# Altium schematic symbol library tsl_Schlib.SchLib: 381 symbols (part 1 of 3)
Pins are listed as number, name and electrical type; pins without a type are passive.

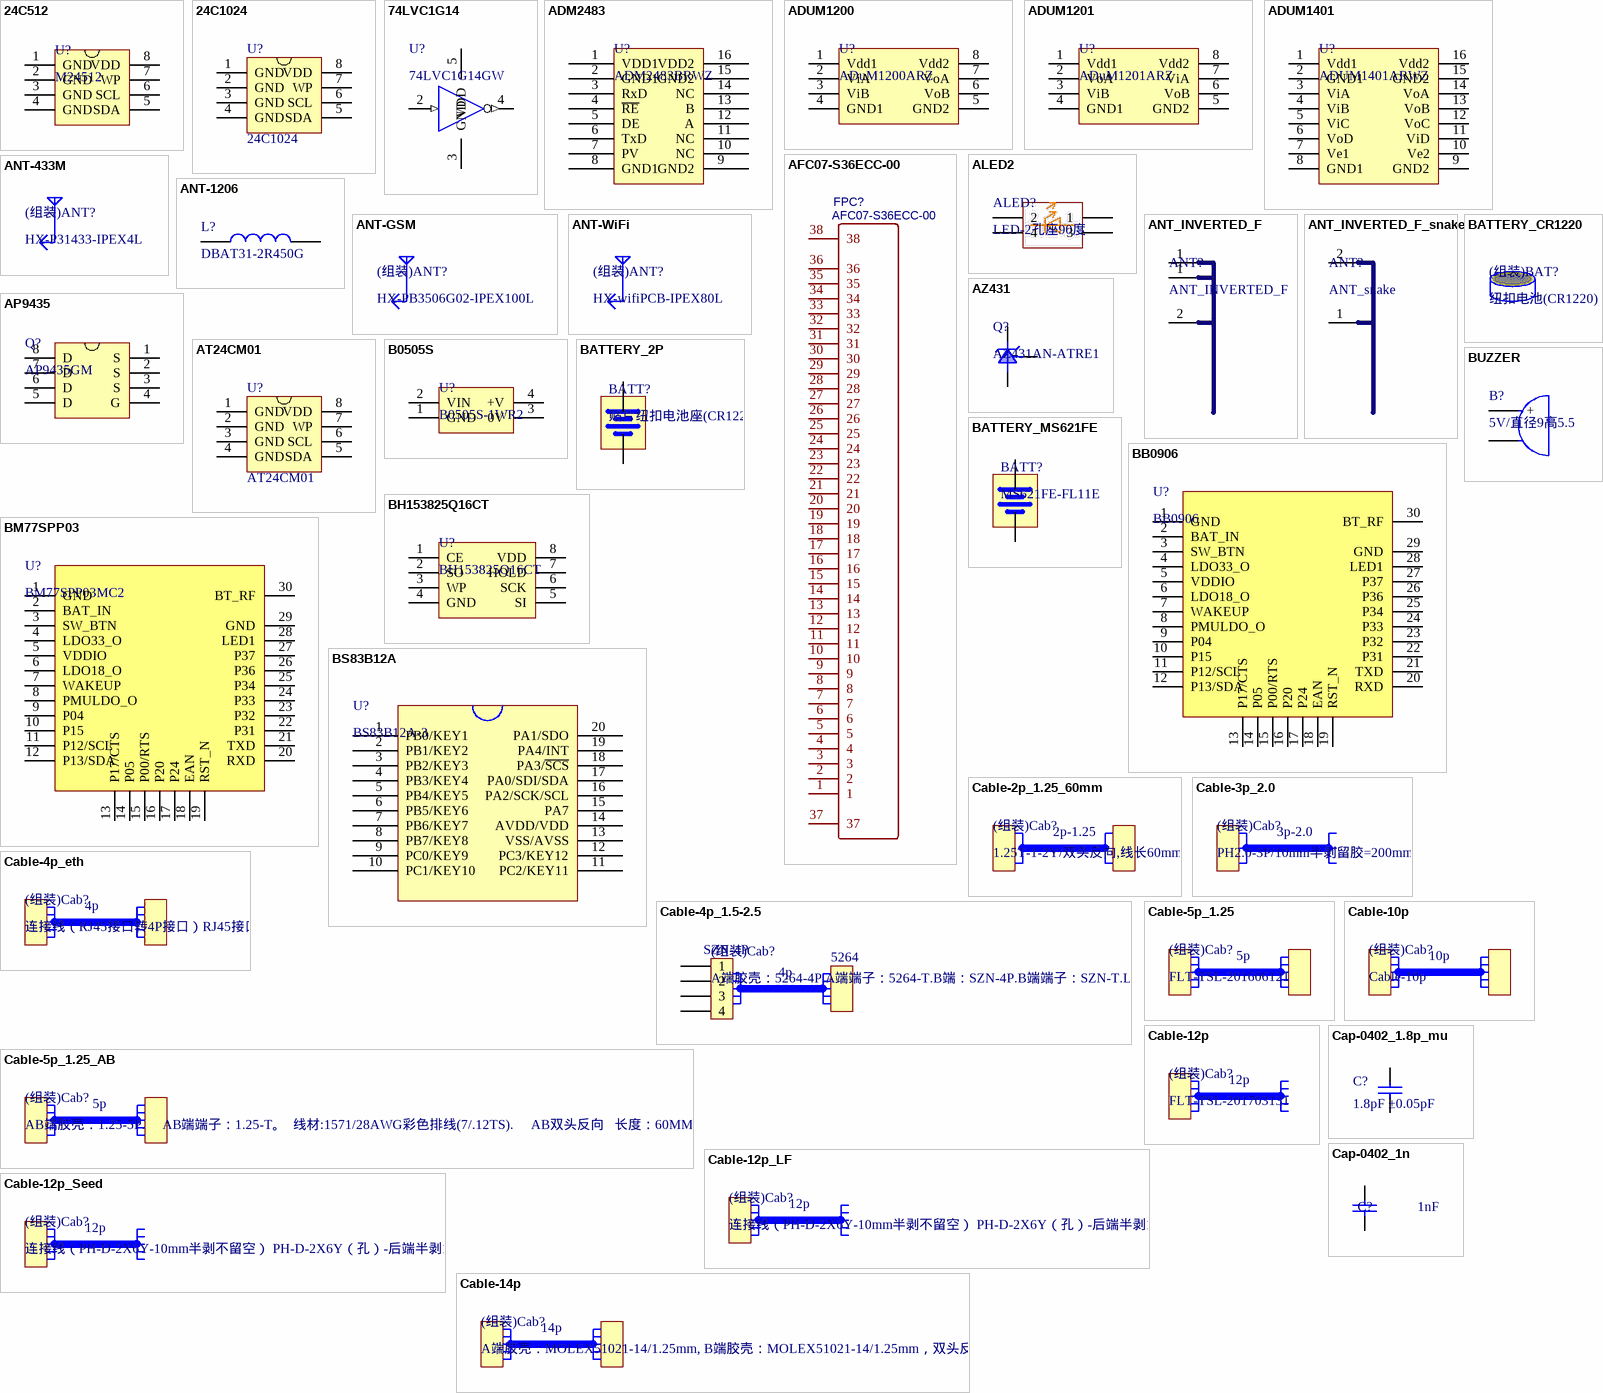
[diagram p0: symbols 24C512 to Cap-0402_1n]

## 24C512
designator U?, comment M24512
EEPROM; Part Number: RP02.05.000060; LatestRevisionDate: 09-Feb-2017; LatestRevisionNote: SCHlib build; Publisher: ChenYinaho; Manufacturer: *; Manufacturer Part Number: *; Value: M24512
footprint SOP8_6.0X1.27
pins: 1 GND, 2 GND, 3 GND, 4 GND, 5 SDA, 6 SCL, 7 WP, 8 VDD

## 24C1024
designator U?
EEPROM; Part Number: RP02.05.000085; LatestRevisionDate: 09-Feb-2017; LatestRevisionNote: SCHlib build; Publisher: ChenYinaho; Manufacturer: *; Manufacturer Part Number: *; Value: 24C1024
footprint SOP8_6.0X1.27
pins: 1 GND, 2 GND, 3 GND, 4 GND, 5 SDA, 6 SCL, 7 WP, 8 VDD

## 74LVC1G14
designator U?, comment 74LVC1G14GW
LatestRevisionDate: 09-Feb-2017; LatestRevisionNote: SCHlib build; Publisher: ChenYinaho; Manufacturer: *; Manufacturer Part Number: 74LVC1G14GW; Part Number: *; Value: 74LVC1G14GW
footprint LED1206 (Footprint not found)
footprint SOT353 (Footprint not found)
pins: 2 A (in), 3 GND, 4 ~{Y} (out), 5 VDD

## ADM2483
designator U?, comment ADM2483BRWZ
隔离RS485收发器 IC; Manufacturer: ADI; Part Number: NEW; LatestRevisionDate: 09-Feb-2017; LatestRevisionNote: SCHlib build; Publisher: ChenYinaho; Manufacturer Part Number: ADM2483BRWZ; Value: ADM2483BRWZ
footprint SOP16/300
pins: 1 VDD1, 2 GND1, 3 RxD, 4 ~{RE}, 5 DE, 6 TxD, 7 PV, 8 GND1, 9 GND2, 10 NC, 11 NC, 12 A, 13 B, 14 NC, 15 GND2, 16 VDD2

## ADUM1200
designator U?, comment ADuM1200ARZ
数字隔离器 IC; Manufacturer: ADI; Part Number: NEW; LatestRevisionDate: 09-Feb-2017; LatestRevisionNote: SCHlib build; Publisher: ChenYinaho; Manufacturer Part Number: ADuM1200ARZ; Value: ADuM1200ARZ
footprint SOP8_6.0X1.27
pins: 1 Vdd1, 2 ViA, 3 ViB, 4 GND1, 5 GND2, 6 VoB, 7 VoA, 8 Vdd2

## ADUM1201
designator U?, comment ADuM1201ARZ
数字隔离器 IC; Manufacturer: ADI; Part Number: NEW; LatestRevisionDate: 09-Feb-2017; LatestRevisionNote: SCHlib build; Publisher: ChenYinaho; Manufacturer Part Number: ADuM1201ARZ; Value: ADuM1201ARZ
footprint SOP8_6.0X1.27
pins: 1 Vdd1, 2 VoA, 3 ViB, 4 GND1, 5 GND2, 6 VoB, 7 ViA, 8 Vdd2

## ADUM1401
designator U?, comment ADUM1401ARWZ
数字隔离器 IC; Manufacturer: ADI; Part Number: NEW; LatestRevisionDate: 09-Feb-2017; LatestRevisionNote: SCHlib build; Publisher: ChenYinaho; Manufacturer Part Number: ADUM1401ARWZ; Value: ADUM1401ARWZ
footprint SOP16/300
pins: 1 Vdd1, 2 GND1, 3 ViA, 4 ViB, 5 ViC, 6 VoD, 7 Ve1, 8 GND1, 9 GND2, 10 Ve2, 11 ViD, 12 VoC, 13 VoB, 14 VoA, 15 GND2, 16 Vdd2

## AFC07-S36ECC-00
designator FPC?
BOM_Manufacturer: JUSHUO; Contributor: LCSC; BOM_Supplier: LCSC; BOM_Supplier Part: C262254; BOM_Manufacturer Part: AFC07-S36ECC-00; spicePre: F
footprint FPC-0.5MM-36P-LCS-SJ-H2.0
pins: 1, 2, 3, 4, 5, 6, 7, 8, 9, 10, 11, 12, 13, 14, 15, 16, 17, 18, 19, 20, 21, 22, 23, 24, 25, 26, 27, 28, 29, 30, 31, 32, 33, 34, 35, 36, 37, 38

## ALED2
designator ALED?, comment LED-2孔座90度
3mm灯座含灯2孔座90度，上红下绿，左正右负; Part Number: NEW; LatestRevisionDate: 09-Feb-2017; LatestRevisionNote: SCHlib build; Publisher: ChenYinaho; Manufacturer: *; Manufacturer Part Number: *; Value: LED-2孔座90度
footprint ALED2 (Footprint not found)
pins: 1, 2, 3, 4

## ANT-433M
designator (组装)ANT?, comment HX-P31433-IPEX4L
433外置天线; Part Number: RP03.01.000266; LatestRevisionDate: 09-Feb-2017; LatestRevisionNote: SCHlib build; Publisher: ChenYinaho; Manufacturer: *; Manufacturer Part Number: *; Value: HX-P31433-IPEX4L

## ANT-1206
designator L?, comment DBAT31-2R450G
贴片蓝牙天线; Part Number: RP02.99.000038; LatestRevisionDate: 09-Feb-2017; LatestRevisionNote: SCHlib build; Publisher: ChenYinaho; Manufacturer: *; Manufacturer Part Number: *; Value: DBAT31-2R450G
footprint R1206 (Footprint not found)
pins: 1, 2

## ANT-GSM
designator (组装)ANT?, comment HX-PB3506G02-IPEX100L
3G外置天线; Part Number: RP03.01.000241; LatestRevisionDate: 09-Feb-2017; LatestRevisionNote: SCHlib build; Publisher: ChenYinaho; Manufacturer: *; Manufacturer Part Number: *; Value: HX-PB3506G02-IPEX100L

## ANT-WiFi
designator (组装)ANT?, comment HX-wifiPCB-IPEX80L
wifi外置天线; Part Number: RP03.01.000240; LatestRevisionDate: 09-Feb-2017; LatestRevisionNote: SCHlib build; Publisher: ChenYinaho; Manufacturer: *; Manufacturer Part Number: *; Value: HX-wifiPCB-IPEX80L

## ANT_INVERTED_F
designator ANT?
2.4G PCB天线; Part Number: DELETE IN BOM; LatestRevisionDate: 09-Feb-2017; LatestRevisionNote: SCHlib build; Publisher: ChenYinaho; Manufacturer: *; Manufacturer Part Number: *; Value: ANT_INVERTED_F
footprint RF_2400MHZ_INVERTED_F_ANTENNA_B
pins: 1, 1, 2

## ANT_INVERTED_F_snake
designator ANT?, comment ANT_snake
2.4G PCB天线; Part Number: DELETE IN BOM; LatestRevisionDate: 09-Feb-2017; LatestRevisionNote: SCHlib build; Publisher: ChenYinaho; Manufacturer: *; Manufacturer Part Number: *; Value: ANT_snake
footprint antenna_IIFA_1
pins: 1, 2

## AP9435
designator Q?, comment AP9435GM
PMOS; Part Number: RP02.05.000088; LatestRevisionDate: 09-Feb-2017; LatestRevisionNote: SCHlib build; Publisher: ChenYinaho; Manufacturer: *; Manufacturer Part Number: AP9435GM; Value: AP9435GM
footprint SOP8_6.0X1.27 (Footprint not found)
pins: 1 S, 2 S, 3 S, 4 G, 5 D, 6 D, 7 D, 8 D

## AT24CM01
designator U?
EEPROM; Part Number: RP02.05.000039; LatestRevisionDate: 09-Feb-2017; LatestRevisionNote: SCHlib build; Publisher: ChenYinaho; Manufacturer: *; Manufacturer Part Number: *; Value: AT24CM01
footprint SOP8_6.0X1.27
pins: 1 GND, 2 GND, 3 GND, 4 GND, 5 SDA, 6 SCL, 7 WP, 8 VDD

## AZ431
designator Q?, comment AZ431AN-ATRE1
电压基准IC; Part Number: NEW; LatestRevisionDate: 09-Feb-2017; LatestRevisionNote: SCHlib build; Publisher: ChenYinaho; Manufacturer: *; Manufacturer Part Number: AZ431AN-ATRE1; Value: AZ431AN-ATRE1
footprint sot-23
pins: 1 R, 2 K, 3 A

## B0505S
designator U?, comment B0505S-1WR2
电源模块 直插; Manufacturer: 金升阳; Part Number: NEW; LatestRevisionDate: 09-Feb-2017; LatestRevisionNote: SCHlib build; Publisher: ChenYinaho; Manufacturer Part Number: B0505S-1WR2; Value: B0505S-1WR2
footprint B0505S (Footprint not found)
pins: 1 GND (power), 2 VIN (power), 3 0V (power), 4 +V (power)

## BATTERY_2P
designator BATT?, comment 贴片纽扣电池座(CR1220)
贴片电池座; Manufacturer Part Number: BATTERY_2P; Part Number: RP03.01.000081; LatestRevisionDate: 09-Feb-2017; LatestRevisionNote: SCHlib build; Publisher: ChenYinaho; Manufacturer: *; Value: 贴片纽扣电池座(CR1220)
footprint BATT_3 (Footprint not found)
pins: 1, 2

## BATTERY_CR1220
designator (组装)BAT?, comment 纽扣电池(CR1220)
纽扣电池; Part Number: RP02.99.000077; LatestRevisionDate: 09-Feb-2017; LatestRevisionNote: SCHlib build; Publisher: ChenYinaho; Manufacturer: *; Manufacturer Part Number: CR1220; Value: 纽扣电池(CR1220)

## BATTERY_MS621FE
designator BATT?, comment MS621FE-FL11E
贴片可充电纽扣锂电池; Manufacturer: Seiko精工; Part Number: RP02.99.000091; LatestRevisionDate: 09-Feb-2017; LatestRevisionNote: SCHlib build; Publisher: ChenYinaho; Manufacturer Part Number: MS621FE-FL11E; Value: MS621FE-FL11E
footprint FL11E
pins: 1, 2

## BB0906
designator U?
蓝牙模块; Part Number: RP02.05.000091; LatestRevisionDate: 09-Feb-2017; LatestRevisionNote: SCHlib build; Publisher: ChenYinaho; Manufacturer: *; Manufacturer Part Number: BB0906; Value: BB0906
footprint BM77SPP03MC2 (Footprint not found)
pins: 1 GND, 2 BAT_IN, 3 SW_BTN, 4 LDO33_O, 5 VDDIO, 6 LDO18_O, 7 WAKEUP, 8 PMULDO_O, 9 P04, 10 P15, 11 P12/SCL, 12 P13/SDA, 13 P17/CTS, 14 P05, 15 P00/RTS, 16 P20, 17 P24, 18 EAN, 19 RST_N, 20 RXD, 21 TXD, 22 P31, 23 P32, 24 P33, 25 P34, 26 P36, 27 P37, 28 LED1, 29 GND, 30 BT_RF

## BH153825Q16CT
designator U?
Flash; Manufacturer: MicroChip; Part Number: RP02.05.000031; LatestRevisionDate: 09-Feb-2017; LatestRevisionNote: SCHlib build; Publisher: ChenYinaho; Manufacturer Part Number: BH153825Q16CT; Value: BH153825Q16CT
footprint SOP8_6.0X1.27
pins: 1 CE, 2 SO, 3 WP, 4 GND, 5 SI, 6 SCK, 7 HOLD, 8 VDD

## BM77SPP03
designator U?, comment BM77SPP03MC2
蓝牙模块; Part Number: RP02.05.000019; LatestRevisionDate: 09-Feb-2017; LatestRevisionNote: SCHlib build; Publisher: ChenYinaho; Manufacturer: *; Manufacturer Part Number: BM77SPP03MC2; Value: BM77SPP03MC2
footprint BM77SPP03MC2 (Footprint not found)
pins: 1 GND, 2 BAT_IN, 3 SW_BTN, 4 LDO33_O, 5 VDDIO, 6 LDO18_O, 7 WAKEUP, 8 PMULDO_O, 9 P04, 10 P15, 11 P12/SCL, 12 P13/SDA, 13 P17/CTS, 14 P05, 15 P00/RTS, 16 P20, 17 P24, 18 EAN, 19 RST_N, 20 RXD, 21 TXD, 22 P31, 23 P32, 24 P33, 25 P34, 26 P36, 27 P37, 28 LED1, 29 GND, 30 BT_RF

## BS83B12A
designator U?, comment BS83B12A-3
触摸IC; Part Number: RP02.05.000024; LatestRevisionDate: 09-Feb-2017; LatestRevisionNote: SCHlib build; Publisher: ChenYinaho; Manufacturer: *; Manufacturer Part Number: BS83B12A-3; Value: BS83B12A-3
footprint SSOP20_6X0.65X8.7
pins: 1 PB0/KEY1, 2 PB1/KEY2, 3 PB2/KEY3, 4 PB3/KEY4, 5 PB4/KEY5, 6 PB5/KEY6, 7 PB6/KEY7, 8 PB7/KEY8, 9 PC0/KEY9, 10 PC1/KEY10, 11 PC2/KEY11, 12 PC3/KEY12, 13 VSS/AVSS, 14 AVDD/VDD, 15 PA7, 16 PA2/SCK/SCL, 17 PA0/SDI/SDA, 18 PA3/~{SCS}, 19 PA4/INT, 20 PA1/SDO

## BUZZER
designator B?, comment 5V/直径9高5.5
有源蜂鸣器; Part Number: RP02.99.000022; LatestRevisionDate: 09-Feb-2017; LatestRevisionNote: SCHlib build; Publisher: ChenYinaho; Manufacturer: *; Manufacturer Part Number: *; Value: 5V/直径9高5.5
footprint BUZZER_5-9 (Footprint not found)
pins: 1 +, 2 -

## Cable-2p_1.25_60mm
designator (组装)Cab?, comment 1.25T-1-2Y/双头反向,线长60mm
连接线(2P/1.25mm); Part Number: NEW; LatestRevisionDate: 09-Feb-2017; LatestRevisionNote: SCHlib build; Publisher: ChenYinaho; Manufacturer: *; Manufacturer Part Number: *; Value: 1.25T-1-2Y/双头反向,线长60mm
text: 2p-1.25

## Cable-3p_2.0
designator (组装)Cab?, comment PH2.0-3P/10mm半剥留胶=200mm
连接线(3P/2.0mm); Part Number: RP02.08.000073; LatestRevisionDate: 09-Feb-2017; LatestRevisionNote: SCHlib build; Publisher: ChenYinaho; Manufacturer: *; Manufacturer Part Number: *; Value: PH2.0-3P/10mm半剥留胶=200mm
text: 3p-2.0

## Cable-4p_1.5-2.5
designator (组装)Cab?, comment A端胶壳：5264-4P,A端端子：5264-T.B端：SZN-4P.B端端子：SZN-T.L=300mm
连接线4P 图号:FLT-TSL-201703031; Part Number: RP02.08.000127; LatestRevisionDate: 09-Feb-2017; LatestRevisionNote: SCHlib build; Publisher: ChenYinaho; Manufacturer: *; Manufacturer Part Number: *; Value: A端胶壳：5264-4P,A端端子：5264-T.B端：SZN-4P.B端端子：SZN-T.L=300mm
footprint SZN-4P (Footprint not found)
pins: 1, 2, 3, 4
text: SZN-4P; 5264; 4p

## Cable-4p_eth
designator (组装)Cab?, comment 连接线（RJ45接口转4P接口）RJ45接口转4P接口
线材 以太网转接线; Part Number: RP02.08.000162; LatestRevisionDate: 09-Feb-2017; LatestRevisionNote: SCHlib build; Publisher: ChenYinaho; Manufacturer: *; Manufacturer Part Number: *; Value: 连接线（RJ45接口转4P接口）RJ45接口转4P接口
footprint DY-T990-0.15 (Footprint not found)
text: 4p

## Cable-5p_1.25
designator (组装)Cab?, comment FLT-TSL-201606121
连接线(5P/1.25mm); Part Number: RP02.08.000051; LatestRevisionDate: 09-Feb-2017; LatestRevisionNote: SCHlib build; Publisher: ChenYinaho; Manufacturer: *; Manufacturer Part Number: *; Value: FLT-TSL-201606121
text: 5p

## Cable-5p_1.25_AB
designator (组装)Cab?, comment AB端胶壳：1.25-5P.     AB端端子：1.25-T。  线材:1571/28AWG彩色排线(7/.12TS).     AB双头反向   长度：60MM±5MM
连接线(5P/1.25mm); Part Number: NEW; LatestRevisionDate: 09-Feb-2017; LatestRevisionNote: SCHlib build; Publisher: ChenYinaho; Manufacturer: *; Manufacturer Part Number: *; Value: AB端胶壳：1.25-5P.     AB端端子：1.25-T。  线材:1571/28AWG彩色排线(7/.12TS).     AB双头反向   长度：60MM±5MM
text: 5p

## Cable-10p
designator (组装)Cab?
线材; Part Number: RP02.08.000104; LatestRevisionDate: 09-Feb-2017; LatestRevisionNote: SCHlib build; Publisher: ChenYinaho; Manufacturer: *; Manufacturer Part Number: *; Value: Cable-10p
text: 10p

## Cable-12p
designator (组装)Cab?, comment FLT-TSL-201703131
线材 2.0间距2*6p线缆; Part Number: RP02.08.000126; LatestRevisionDate: 09-Feb-2017; LatestRevisionNote: SCHlib build; Publisher: ChenYinaho; Manufacturer: *; Manufacturer Part Number: *; Value: FLT-TSL-201703131
text: 12p

## Cable-12p_LF
designator (组装)Cab?, comment 连接线（PH-D-2X6Y-10mm半剥不留空） PH-D-2X6Y（孔）-后端半剥10mm不留空 有套管
线材 2.0间距2*6p线缆; Part Number: RP02.08.000161; LatestRevisionDate: 09-Feb-2017; LatestRevisionNote: SCHlib build; Publisher: ChenYinaho; Manufacturer: *; Manufacturer Part Number: *; Value: 连接线（PH-D-2X6Y-10mm半剥不留空） PH-D-2X6Y（孔）-后端半剥10mm不留空 有套管
footprint PH-D-2X6Y（孔）-后端半剥10mm不留空 (Footprint not found)
text: 12p

## Cable-12p_Seed
designator (组装)Cab?, comment 连接线（PH-D-2X6Y-10mm半剥不留空） PH-D-2X6Y（孔）-后端半剥10mm不留空 无套管
线材 2.0间距2*6p线缆; Part Number: NEW; LatestRevisionDate: 09-Feb-2017; LatestRevisionNote: SCHlib build; Publisher: ChenYinaho; Manufacturer: *; Manufacturer Part Number: *; Value: 连接线（PH-D-2X6Y-10mm半剥不留空） PH-D-2X6Y（孔）-后端半剥10mm不留空 无套管
footprint PH-D-2X6Y（孔）-后端半剥10mm不留空 (Footprint not found)
text: 12p

## Cable-14p
designator (组装)Cab?, comment A端胶壳：MOLEX51021-14/1.25mm, B端胶壳：MOLEX51021-14/1.25mm，双头反向=80mm
线材 1.25间距 双头14p线; Part Number: RP02.08.000137; LatestRevisionDate: 09-Feb-2017; LatestRevisionNote: SCHlib build; Publisher: ChenYinaho; Manufacturer: *; Manufacturer Part Number: *; Value: A端胶壳：MOLEX51021-14/1.25mm, B端胶壳：MOLEX51021-14/1.25mm，双头反向=80mm
text: 14p

## Cap-0402_1.8p_mu
designator C?, comment 1.8pF ±0.05pF
表贴陶瓷电容,0402,±0.05pF,50V,C0G; Manufacturer: 村田; Manufacturer Part Number: GJM1555C1H1R8WB01D; Part Number: NEW; LatestRevisionDate: 09-Feb-2017; LatestRevisionNote: SCHlib build; Publisher: ChenYinaho; PackageDescription: C0402; Value: 1.8pF ±0.05pF
footprint 0402_C
pins: 1, 2

## Cap-0402_1n
designator C?, comment 1nF
表贴电容0402,±10%,10V; Part Number: RP02.04.000224; LatestRevisionDate: 09-Feb-2017; LatestRevisionNote: SCHlib build; Publisher: ChenYinaho; PackageDescription: 0402C; Manufacturer: *; Manufacturer Part Number: *; Value: 1nF
footprint 0402_C
pins: 1, 2

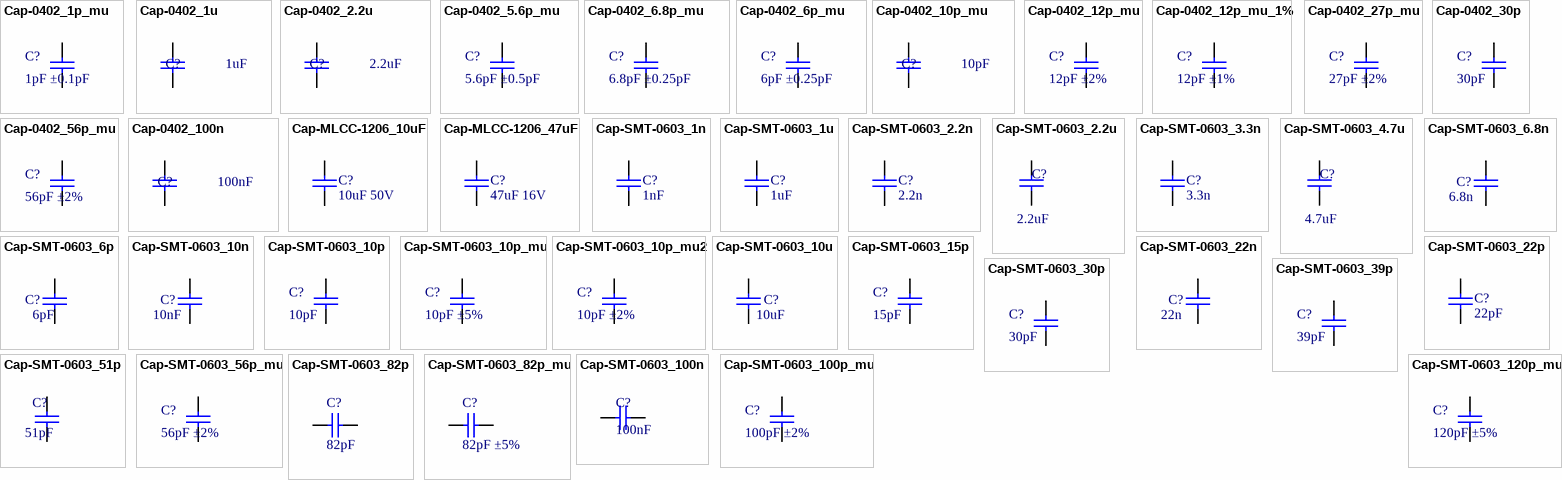
[diagram p1: symbols Cap-0402_1p_mu to Cap-SMT-0603_120p_mu]

## Cap-0402_1p_mu
designator C?, comment 1pF ±0.1pF
表贴陶瓷电容,0402,±0.1pF,50V,C0G; Manufacturer: 村田; Manufacturer Part Number: GRM1555C1H1R0BA01D; Part Number: NEW; LatestRevisionDate: 09-Feb-2017; LatestRevisionNote: SCHlib build; Publisher: ChenYinaho; PackageDescription: C0402; Value: 1pF ±0.1pF
footprint 0402_C
pins: 1, 2

## Cap-0402_1u
designator C?, comment 1uF
表贴电容0402,±10%,6.3V; Part Number: RP02.04.000220; LatestRevisionDate: 09-Feb-2017; LatestRevisionNote: SCHlib build; Publisher: ChenYinaho; PackageDescription: 0402C; Manufacturer: *; Manufacturer Part Number: *; Value: 1uF
footprint 0402_C
pins: 1, 2

## Cap-0402_2.2u
designator C?, comment 2.2uF
表贴电容0402,±20%,6.3V,X5R; Part Number: RP02.04.000223; LatestRevisionDate: 09-Feb-2017; LatestRevisionNote: SCHlib build; Publisher: ChenYinaho; PackageDescription: 0402C; Manufacturer: *; Manufacturer Part Number: *; Value: 2.2uF
footprint 0402_C
pins: 1, 2

## Cap-0402_5.6p_mu
designator C?, comment 5.6pF ±0.5pF
表贴陶瓷电容,0402,±0.5pF,50V,C0G; Manufacturer: 村田; Manufacturer Part Number: GRM1555C1H5R6DA01D; Part Number: NEW; LatestRevisionDate: 09-Feb-2017; LatestRevisionNote: SCHlib build; Publisher: ChenYinaho; PackageDescription: C0402; Value: 5.6pF ±0.5pF
footprint 0402_C
pins: 1, 2

## Cap-0402_6.8p_mu
designator C?, comment 6.8pF ±0.25pF
表贴陶瓷电容,0402,±0.25pF,50V,C0G; Manufacturer: 村田; Manufacturer Part Number: GRM1555C1H6R8CA01D; Part Number: NEW; LatestRevisionDate: 09-Feb-2017; LatestRevisionNote: SCHlib build; Publisher: ChenYinaho; PackageDescription: C0402; Value: 6.8pF ±0.25pF
footprint 0402_C
pins: 1, 2

## Cap-0402_6p_mu
designator C?, comment 6pF ±0.25pF
表贴陶瓷电容,0402,±0.25pF,50V,C0G; Manufacturer: 村田; Manufacturer Part Number: GRM1555C1H6R0CA01D; Part Number: RP02.04.000227; LatestRevisionDate: 09-Feb-2017; LatestRevisionNote: SCHlib build; Publisher: ChenYinaho; PackageDescription: C0402; Value: 6pF ±0.25pF
footprint 0402_C
pins: 1, 2

## Cap-0402_10p_mu
designator C?, comment 10pF
表贴电容0402,±2%,50V,C0G; Manufacturer: 村田; Manufacturer Part Number: GRM1555C1H100GA01D; Part Number: RP02.04.000228; LatestRevisionDate: 09-Feb-2017; LatestRevisionNote: SCHlib build; Publisher: ChenYinaho; PackageDescription: 0402C; Value: 10pF
footprint 0402_C
pins: 1, 2

## Cap-0402_12p_mu
designator C?, comment 12pF ±2%
表贴陶瓷电容,0402,±2%,50V,C0G; Manufacturer: 村田; Manufacturer Part Number: GRM1555C1H120GA01D; Part Number: NEW; LatestRevisionDate: 09-Feb-2017; LatestRevisionNote: SCHlib build; Publisher: ChenYinaho; PackageDescription: C0603; Value: 12pF ±2%
footprint 0402_C
pins: 1, 2

## Cap-0402_12p_mu_1%
designator C?, comment 12pF ±1%
表贴陶瓷电容,0402,±1%,50V,C0G; Manufacturer: 村田; Manufacturer Part Number: GRM1555C1H120FA01D; Part Number: NEW; LatestRevisionDate: 09-Feb-2017; LatestRevisionNote: SCHlib build; Publisher: ChenYinaho; PackageDescription: C0402; Value: 12pF ±1%
footprint 0402_C
pins: 1, 2

## Cap-0402_27p_mu
designator C?, comment 27pF ±2%
表贴陶瓷电容,0402,±2%,50V,C0G; Manufacturer: 村田; Manufacturer Part Number: GRM1555C1H270GA01D; Part Number: NEW; LatestRevisionDate: 09-Feb-2017; LatestRevisionNote: SCHlib build; Publisher: ChenYinaho; PackageDescription: C0603; Value: 27pF ±2%
footprint 0402_C
pins: 1, 2

## Cap-0402_30p
designator C?, comment 30pF
表贴陶瓷电容,0402,±5%,50V,C0G; Part Number: RP02.04.000219; LatestRevisionDate: 09-Feb-2017; LatestRevisionNote: SCHlib build; Publisher: ChenYinaho; PackageDescription: C0402; Manufacturer: --; Manufacturer Part Number: --; Value: 30pF
footprint 0402_C
pins: 1, 2

## Cap-0402_56p_mu
designator C?, comment 56pF ±2%
表贴陶瓷电容,0402,±2%,50V,C0G; Manufacturer: 村田; Manufacturer Part Number: GRM1555C1H560GA01D; Part Number: NEW; LatestRevisionDate: 09-Feb-2017; LatestRevisionNote: SCHlib build; Publisher: ChenYinaho; PackageDescription: C0402; Value: 56pF ±2%
footprint 0402_C
pins: 1, 2

## Cap-0402_100n
designator C?, comment 100nF
表贴电容0402,±10%,16V,X7R; Part Number: RP02.04.000221; LatestRevisionDate: 09-Feb-2017; LatestRevisionNote: SCHlib build; Publisher: ChenYinaho; PackageDescription: 0402C; Manufacturer: *; Manufacturer Part Number: *; Value: 100nF
footprint 0402_C
pins: 1, 2

## Cap-MLCC-1206_10uF
designator C?, comment 10uF 50V
表贴陶瓷电容,1206,±10%,50V,X5R; Manufacturer: YAGO; Part Number: RP02.04.000210; LatestRevisionDate: 09-Feb-2017; LatestRevisionNote: SCHlib build; Publisher: ChenYinaho; PackageDescription: C1206; Manufacturer Part Number: *; Value: 10uF 50V
footprint C1206 (Footprint not found)
pins: 1, 2

## Cap-MLCC-1206_47uF
designator C?, comment 47uF 16V
表贴陶瓷电容,1206,±20%,16V; Manufacturer: YAGO; Part Number: RP02.04.000212; LatestRevisionDate: 09-Feb-2017; LatestRevisionNote: SCHlib build; Publisher: ChenYinaho; PackageDescription: C1206; Manufacturer Part Number: *; Value: 47uF 16V
footprint C1206 (Footprint not found)
pins: 1, 2

## Cap-SMT-0603_1n
designator C?, comment 1nF
表贴陶瓷电容,0603,±10%,50V; Manufacturer: YAGO; Part Number: RP02.04.000058; LatestRevisionDate: 09-Feb-2017; LatestRevisionNote: SCHlib build; Publisher: ChenYinaho; PackageDescription: C0603; Manufacturer Part Number: *; Value: 1nF
footprint C0603
pins: 1, 2

## Cap-SMT-0603_1u
designator C?, comment 1uF
表贴陶瓷电容,0603,±10%,10V; Manufacturer: YAGO; Part Number: RP02.04.000061; LatestRevisionDate: 09-Feb-2017; LatestRevisionNote: SCHlib build; Publisher: ChenYinaho; PackageDescription: C0603; Manufacturer Part Number: *; Value: 1uF
footprint C0603
pins: 1, 2

## Cap-SMT-0603_2.2n
designator C?, comment 2.2n
表贴陶瓷电容,0603,±10%,50V; Manufacturer: YAGO; Part Number: NEW; LatestRevisionDate: 09-Feb-2017; LatestRevisionNote: SCHlib build; Publisher: ChenYinaho; PackageDescription: C0603; Manufacturer Part Number: *; Value: 2.2n
footprint C0603
pins: 1, 2

## Cap-SMT-0603_2.2u
designator C?, comment 2.2uF
表贴陶瓷电容,0603,±10%,6.3V; Manufacturer: YAGO; Part Number: RP02.04.000119; LatestRevisionDate: 09-Feb-2017; LatestRevisionNote: SCHlib build; Publisher: ChenYinaho; PackageDescription: C0603; Manufacturer Part Number: *; Value: 2.2uF
footprint C0603
pins: 1, 2

## Cap-SMT-0603_3.3n
designator C?, comment 3.3n
表贴陶瓷电容,0603,±10%,50V; Manufacturer: YAGO; Part Number: RP02.04.000211; LatestRevisionDate: 09-Feb-2017; LatestRevisionNote: SCHlib build; Publisher: ChenYinaho; PackageDescription: C0603; Manufacturer Part Number: *; Value: 3.3n
footprint C0603
pins: 1, 2

## Cap-SMT-0603_4.7u
designator C?, comment 4.7uF
表贴陶瓷电容,0603,±10%,6.3V; Manufacturer: YAGO; Part Number: RP02.04.000071; LatestRevisionDate: 09-Feb-2017; LatestRevisionNote: SCHlib build; Publisher: ChenYinaho; PackageDescription: C0603; Manufacturer Part Number: *; Value: 4.7uF
footprint C0603
pins: 1, 2

## Cap-SMT-0603_6.8n
designator C?, comment 6.8n
表贴陶瓷电容,0603,±10%,50V; Manufacturer: YAGO; Part Number: RP02.04.000216; LatestRevisionDate: 09-Feb-2017; LatestRevisionNote: SCHlib build; Publisher: ChenYinaho; PackageDescription: C0603; Manufacturer Part Number: *; Value: 6.8n
footprint C0603
pins: 1, 2

## Cap-SMT-0603_6p
designator C?, comment 6pF
表贴陶瓷电容,0603,±10%,50V; Manufacturer: YAGO; Part Number: RP02.04.000054; LatestRevisionDate: 09-Feb-2017; LatestRevisionNote: SCHlib build; Publisher: ChenYinaho; PackageDescription: C0603; Manufacturer Part Number: *; Value: 6pF
footprint C0603
pins: 1, 2

## Cap-SMT-0603_10n
designator C?, comment 10nF
表贴陶瓷电容,0603,±10%,50V; Manufacturer: YAGO; Part Number: RP02.04.000074; LatestRevisionDate: 09-Feb-2017; LatestRevisionNote: SCHlib build; Publisher: ChenYinaho; PackageDescription: C0603; Manufacturer Part Number: *; Value: 10nF
footprint C0603
pins: 1, 2

## Cap-SMT-0603_10p
designator C?, comment 10pF
表贴陶瓷电容,0603,±10%,50V; Manufacturer: YAGO; Part Number: RP02.04.000069; LatestRevisionDate: 09-Feb-2017; LatestRevisionNote: SCHlib build; Publisher: ChenYinaho; PackageDescription: C0603; Manufacturer Part Number: *; Value: 10pF
footprint C0603
pins: 1, 2

## Cap-SMT-0603_10p_mu
designator C?, comment 10pF ±5%
表贴陶瓷电容,0603,±5%,50V,C0G; Manufacturer: 村田; Manufacturer Part Number: GRM1885C1H100JA01D; Part Number: NEW; LatestRevisionDate: 09-Feb-2017; LatestRevisionNote: SCHlib build; Publisher: ChenYinaho; PackageDescription: C0603; Value: 10pF ±5%
footprint C0603
pins: 1, 2

## Cap-SMT-0603_10p_mu2
designator C?, comment 10pF ±2%
表贴陶瓷电容,0603,±2%,50V,C0G; Manufacturer: 村田; Manufacturer Part Number: GRM1885C1H100GA01D; Part Number: RP02.04.000230; LatestRevisionDate: 09-Feb-2017; LatestRevisionNote: SCHlib build; Publisher: ChenYinaho; PackageDescription: C0603; Value: 10pF ±2%
footprint C0603
pins: 1, 2

## Cap-SMT-0603_10u
designator C?, comment 10uF
表贴陶瓷电容,0603,±10%,10V; Manufacturer: YAGO; Part Number: RP02.04.000062; LatestRevisionDate: 09-Feb-2017; LatestRevisionNote: SCHlib build; Publisher: ChenYinaho; PackageDescription: C0603; Manufacturer Part Number: *; Value: 10uF
footprint C0603
pins: 1, 2

## Cap-SMT-0603_15p
designator C?, comment 15pF
表贴陶瓷电容,0603,±5%,50V; Manufacturer: YAGO; Part Number: NEW; LatestRevisionDate: 09-Feb-2017; LatestRevisionNote: SCHlib build; Publisher: ChenYinaho; PackageDescription: C0603; Manufacturer Part Number: *; Value: 15pF
footprint C0603
pins: 1, 2

## Cap-SMT-0603_22n
designator C?, comment 22n
表贴陶瓷电容,0603,±10%,50V; Manufacturer: YAGO; Part Number: RP02.04.000215; LatestRevisionDate: 09-Feb-2017; LatestRevisionNote: SCHlib build; Publisher: ChenYinaho; PackageDescription: C0603; Manufacturer Part Number: *; Value: 22n
footprint C0603
pins: 1, 2

## Cap-SMT-0603_22p
designator C?, comment 22pF
表贴陶瓷电容,0603,±10%,50V; Manufacturer: YAGO; Part Number: RP02.04.000055; LatestRevisionDate: 09-Feb-2017; LatestRevisionNote: SCHlib build; Publisher: ChenYinaho; PackageDescription: C0603; Manufacturer Part Number: *; Value: 22pF
footprint C0603
pins: 1, 2

## Cap-SMT-0603_30p
designator C?, comment 30pF
表贴陶瓷电容,0603,±5%,50V; Manufacturer: YAGO; Part Number: NEW; LatestRevisionDate: 09-Feb-2017; LatestRevisionNote: SCHlib build; Publisher: ChenYinaho; PackageDescription: C0603; Manufacturer Part Number: *; Value: 30pF
footprint C0603
pins: 1, 2

## Cap-SMT-0603_39p
designator C?, comment 39pF
表贴陶瓷电容,0603,±10%,50V; Manufacturer: YAGO; Part Number: RP02.04.000162; LatestRevisionDate: 09-Feb-2017; LatestRevisionNote: SCHlib build; Publisher: ChenYinaho; PackageDescription: C0603; Manufacturer Part Number: *; Value: 39pF
footprint C0603
pins: 1, 2

## Cap-SMT-0603_51p
designator C?, comment 51pF
表贴陶瓷电容,0603,±10%,50V; Manufacturer: YAGO; Part Number: RP02.04.000158; LatestRevisionDate: 09-Feb-2017; LatestRevisionNote: SCHlib build; Publisher: ChenYinaho; PackageDescription: C0603; Manufacturer Part Number: *; Value: 51pF
footprint C0603
pins: 1, 2

## Cap-SMT-0603_56p_mu
designator C?, comment 56pF ±2%
表贴陶瓷电容,0603,±2%,50V,C0G; Manufacturer: 村田; Manufacturer Part Number: GRM1885C1H560GA01D; Part Number: NEW; LatestRevisionDate: 09-Feb-2017; LatestRevisionNote: SCHlib build; Publisher: ChenYinaho; PackageDescription: C0603; Value: 56pF ±2%
footprint C0603
pins: 1, 2

## Cap-SMT-0603_82p
designator C?, comment 82pF
表贴陶瓷电容,0603,±10%,50V; Manufacturer: YAGO; Part Number: RP02.04.000142; LatestRevisionDate: 09-Feb-2017; LatestRevisionNote: SCHlib build; Publisher: ChenYinaho; PackageDescription: C0603; Manufacturer Part Number: *; Value: 82pF
footprint C0603
pins: 1, 2

## Cap-SMT-0603_82p_mu
designator C?, comment 82pF ±5%
表贴陶瓷电容 0603 ±5% 50V C0G; Manufacturer: 村田; Manufacturer Part Number: GRM1885C1H820FA01D; Part Number: RP02.04.000168; LatestRevisionDate: 09-Feb-2017; LatestRevisionNote: SCHlib build; Publisher: ChenYinaho; PackageDescription: C0603; Value: 82pF ±5%
footprint C0603
pins: 1, 2

## Cap-SMT-0603_100n
designator C?, comment 100nF
表贴陶瓷电容,0603,±10%,50V; Manufacturer: YAGO; Part Number: RP02.04.000060; LatestRevisionDate: 09-Feb-2017; LatestRevisionNote: SCHlib build; Publisher: ChenYinaho; PackageDescription: C0603; Manufacturer Part Number: *; Value: 100nF
footprint C0603
pins: 1, 2

## Cap-SMT-0603_100p_mu
designator C?, comment 100pF ±2%
表贴陶瓷电容,0603,±2%,50V,C0G; Manufacturer: 村田; Manufacturer Part Number: GRM1885C1H101GA01D; Part Number: RP02.04.000233; LatestRevisionDate: 09-Feb-2017; LatestRevisionNote: SCHlib build; Publisher: ChenYinaho; PackageDescription: C0603; Value: 100pF ±2%
footprint C0603
pins: 1, 2

## Cap-SMT-0603_120p_mu
designator C?, comment 120pF ±5%
表贴陶瓷电容,0603,±5%,50V,C0G; Manufacturer: 村田; Manufacturer Part Number: GRM1885C1H121JA01D; Part Number: NEW; LatestRevisionDate: 09-Feb-2017; LatestRevisionNote: SCHlib build; Publisher: ChenYinaho; PackageDescription: C0603; Value: 120pF ±5%
footprint C0603
pins: 1, 2

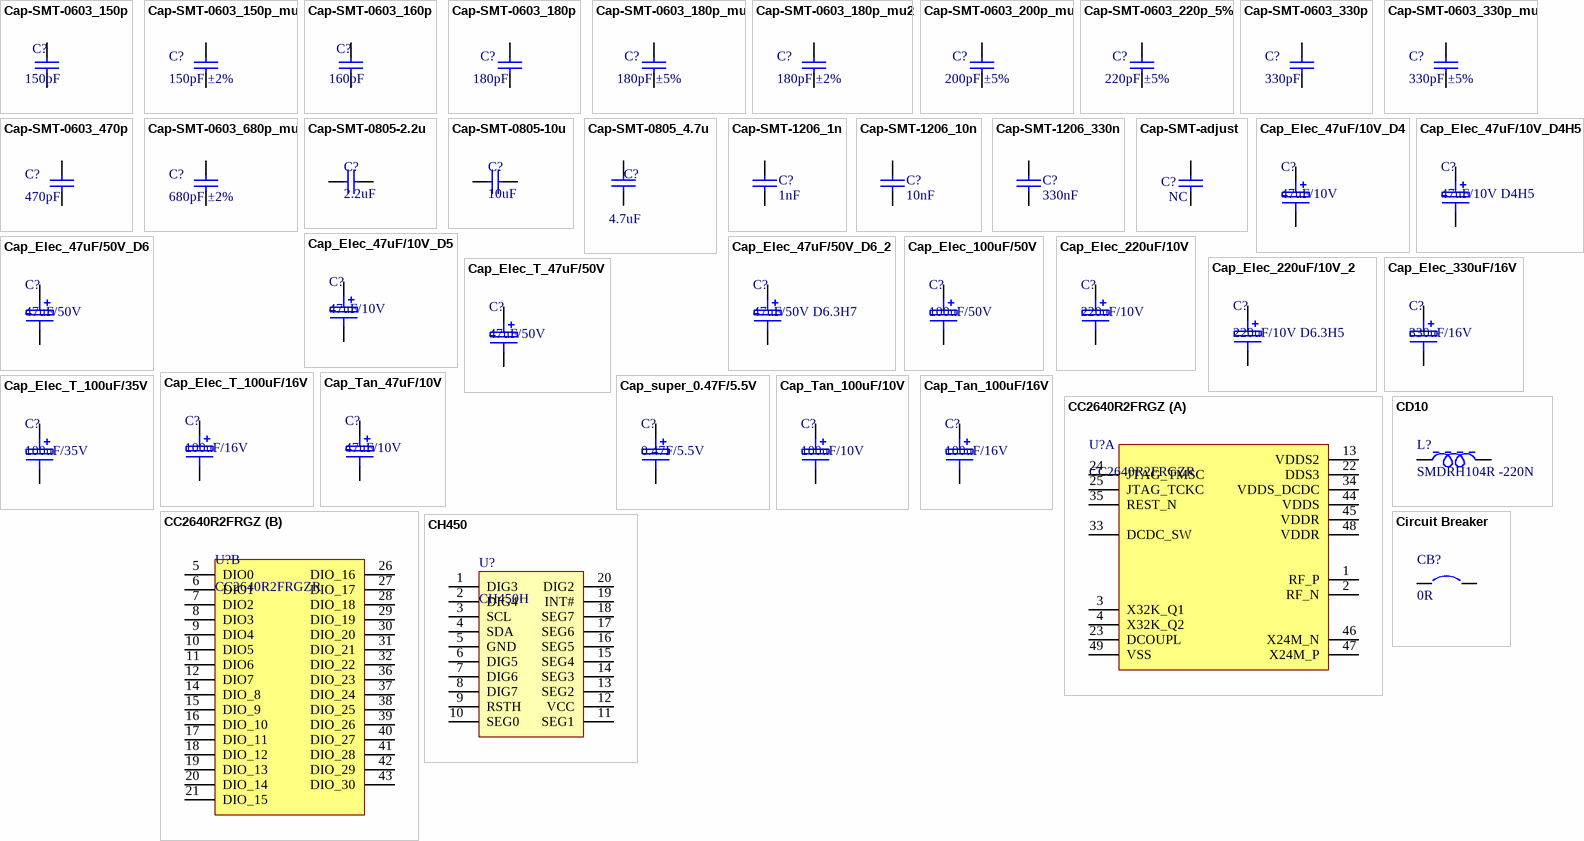
[diagram p2: symbols Cap-SMT-0603_150p to Circuit Breaker]

## Cap-SMT-0603_150p
designator C?, comment 150pF
表贴陶瓷电容,0603,±10%,50V; Manufacturer: YAGO; Part Number: RP02.04.000067; LatestRevisionDate: 09-Feb-2017; LatestRevisionNote: SCHlib build; Publisher: ChenYinaho; PackageDescription: C0603; Manufacturer Part Number: *; Value: 150pF
footprint C0603
pins: 1, 2

## Cap-SMT-0603_150p_mu
designator C?, comment 150pF ±2%
表贴陶瓷电容,0603,±2%,50V,C0G; Manufacturer: 村田; Manufacturer Part Number: GRM1885C1H151GA01; Part Number: RP02.04.000229; LatestRevisionDate: 09-Feb-2017; LatestRevisionNote: SCHlib build; Publisher: ChenYinaho; PackageDescription: C0603; Value: 150pF ±2%
footprint C0603
pins: 1, 2

## Cap-SMT-0603_160p
designator C?, comment 160pF
表贴陶瓷电容,0603,±10%,50V; Manufacturer: YAGO; Part Number: RP02.04.000151; LatestRevisionDate: 09-Feb-2017; LatestRevisionNote: SCHlib build; Publisher: ChenYinaho; PackageDescription: C0603; Manufacturer Part Number: *; Value: 160pF
footprint C0603
pins: 1, 2

## Cap-SMT-0603_180p
designator C?, comment 180pF
表贴陶瓷电容,0603,±10%,50V; Manufacturer: YAGO; Part Number: RP02.04.000073; LatestRevisionDate: 09-Feb-2017; LatestRevisionNote: SCHlib build; Publisher: ChenYinaho; PackageDescription: C0603; Manufacturer Part Number: *; Value: 180pF
footprint C0603
pins: 1, 2

## Cap-SMT-0603_180p_mu
designator C?, comment 180pF ±5%
表贴陶瓷电容 0603 精度5% NP0; Manufacturer: YAGO; Part Number: RP02.04.000169; LatestRevisionDate: 09-Feb-2017; LatestRevisionNote: SCHlib build; Publisher: ChenYinaho; PackageDescription: C0603; Manufacturer Part Number: *; Value: 180pF ±5%
footprint C0603
pins: 1, 2

## Cap-SMT-0603_180p_mu2
designator C?, comment 180pF ±2%
表贴陶瓷电容,0603,±2%,50V,C0G; Manufacturer: 村田; Manufacturer Part Number: GRM1885C1H181GA01; Part Number: RP02.04.000231; LatestRevisionDate: 09-Feb-2017; LatestRevisionNote: SCHlib build; Publisher: ChenYinaho; PackageDescription: C0603; Value: 180pF ±2%
footprint C0603
pins: 1, 2

## Cap-SMT-0603_200p_mu
designator C?, comment 200pF ±5%
表贴陶瓷电容 0603 精度5% NP0; Manufacturer: YAGO; Part Number: RP02.04.000170; LatestRevisionDate: 09-Feb-2017; LatestRevisionNote: SCHlib build; Publisher: ChenYinaho; PackageDescription: C0603; Manufacturer Part Number: *; Value: 200pF ±5%
footprint C0603
pins: 1, 2

## Cap-SMT-0603_220p_5%
designator C?, comment 220pF ±5%
表贴陶瓷电容 0603 精度5% NP0; Manufacturer: YAGO; Part Number: NEW; LatestRevisionDate: 09-Feb-2017; LatestRevisionNote: SCHlib build; Publisher: ChenYinaho; PackageDescription: C0603; Manufacturer Part Number: *; Value: 220pF ±5%
footprint C0603
pins: 1, 2

## Cap-SMT-0603_330p
designator C?, comment 330pF
表贴陶瓷电容,0603,±10%,50V; Manufacturer: YAGO; Part Number: RP02.04.000155; LatestRevisionDate: 09-Feb-2017; LatestRevisionNote: SCHlib build; Publisher: ChenYinaho; PackageDescription: C0603; Manufacturer Part Number: *; Value: 330pF
footprint C0603
pins: 1, 2

## Cap-SMT-0603_330p_mu
designator C?, comment 330pF ±5%
表贴陶瓷电容 0603 精度5% NP0; Manufacturer: YAGO; Part Number: RP02.04.000171; LatestRevisionDate: 09-Feb-2017; LatestRevisionNote: SCHlib build; Publisher: ChenYinaho; PackageDescription: C0603; Manufacturer Part Number: *; Value: 330pF ±5%
footprint C0603
pins: 1, 2

## Cap-SMT-0603_470p
designator C?, comment 470pF
表贴陶瓷电容,0603,±10%,50V; Manufacturer: YAGO; Part Number: RP02.04.000159; LatestRevisionDate: 09-Feb-2017; LatestRevisionNote: SCHlib build; Publisher: ChenYinaho; PackageDescription: C0603; Manufacturer Part Number: *; Value: 470pF
footprint C0603
pins: 1, 2

## Cap-SMT-0603_680p_mu
designator C?, comment 680pF ±2%
表贴陶瓷电容,0603,±2%,50V,C0G; Manufacturer: 村田; Manufacturer Part Number: GRM1885C1H681GA01D; Part Number: RP02.04.000232; LatestRevisionDate: 09-Feb-2017; LatestRevisionNote: SCHlib build; Publisher: ChenYinaho; PackageDescription: C0603; Value: 680pF ±2%
footprint C0603
pins: 1, 2

## Cap-SMT-0805-2.2u
designator C?, comment 2.2uF
表贴陶瓷电容,0805,±10%,25V; Manufacturer: YAGO; Part Number: RP02.04.000214; LatestRevisionDate: 09-Feb-2017; LatestRevisionNote: SCHlib build; Publisher: ChenYinaho; PackageDescription: C0805; Manufacturer Part Number: *; Value: 2.2uF
footprint C0805
pins: 1, 2

## Cap-SMT-0805-10u
designator C?, comment 10uF
表贴陶瓷电容,0805,±10%,10V; Part Number: RP02.04.000095; LatestRevisionDate: 09-Feb-2017; LatestRevisionNote: SCHlib build; Publisher: ChenYinaho; PackageDescription: C0805; Manufacturer: *; Manufacturer Part Number: *; Value: 10uF
footprint C0805
pins: 1, 2

## Cap-SMT-0805_4.7u
designator C?, comment 4.7uF
表贴陶瓷电容,0805,±10%,10V; Manufacturer: YAGO; Part Number: RP02.04.000094; LatestRevisionDate: 09-Feb-2017; LatestRevisionNote: SCHlib build; Publisher: ChenYinaho; PackageDescription: C0805; Manufacturer Part Number: *; Value: 4.7uF
footprint C0805
pins: 1, 2

## Cap-SMT-1206_1n
designator C?, comment 1nF
表贴陶瓷电容,1206,±10%,2kV; Manufacturer: YAGO; Part Number: RP02.04.000213; LatestRevisionDate: 09-Feb-2017; LatestRevisionNote: SCHlib build; Publisher: ChenYinaho; PackageDescription: C1206; Manufacturer Part Number: *; Value: 1nF
footprint C1206 (Footprint not found)
pins: 1, 2

## Cap-SMT-1206_10n
designator C?, comment 10nF
表贴陶瓷电容,1206,±10%,2kV; Manufacturer: YAGO; Part Number: NEW; LatestRevisionDate: 09-Feb-2017; LatestRevisionNote: SCHlib build; Publisher: ChenYinaho; PackageDescription: C1206; Manufacturer Part Number: *; Value: 10nF
footprint C1206 (Footprint not found)
pins: 1, 2

## Cap-SMT-1206_330n
designator C?, comment 330nF
表贴陶瓷电容,1206,±10%,100V; Manufacturer: YAGO; Part Number: NEW; LatestRevisionDate: 09-Feb-2017; LatestRevisionNote: SCHlib build; Publisher: ChenYinaho; PackageDescription: C1206; Manufacturer Part Number: *; Value: 330nF
footprint C1206 (Footprint not found)
pins: 1, 2

## Cap-SMT-adjust
designator C?, comment NC
匹配电容; Manufacturer: YAGO; LatestRevisionDate: 09-Feb-2017; LatestRevisionNote: SCHlib build; Publisher: ChenYinaho; PackageDescription: --; Manufacturer Part Number: *; Part Number: --; Value: *
footprint C_adjust (Footprint not found)
pins: 1, 2

## Cap_Elec_47uF/10V_D4
designator C?, comment 47uF/10V
直插电解电容; Part Number: RP02.04.000166; LatestRevisionDate: 09-Feb-2017; LatestRevisionNote: SCHlib build; Publisher: ChenYinaho; Manufacturer: *; Manufacturer Part Number: *; Value: 47uF/10V
footprint CAP_4X7_DIP
pins: 1, 2

## Cap_Elec_47uF/10V_D4H5
designator C?, comment 47uF/10V D4H5
直插电解电容; Part Number: RP02.04.000172; LatestRevisionDate: 09-Feb-2017; LatestRevisionNote: SCHlib build; Publisher: ChenYinaho; Manufacturer: *; Manufacturer Part Number: *; Value: 47uF/10V D4H5
footprint CAP_4X5_DIP
pins: 1, 2

## Cap_Elec_47uF/10V_D5
designator C?, comment 47uF/10V
直插电解电容; Part Number: RP02.04.000038; LatestRevisionDate: 09-Feb-2017; LatestRevisionNote: SCHlib build; Publisher: ChenYinaho; Manufacturer: *; Manufacturer Part Number: *; Value: 47uF/10V
footprint CAP_5X5_DIP
footprint CAP_6X5_DIP (Footprint not found)
footprint CAP_8X12_DIP (Footprint not found)
pins: 1, 2

## Cap_Elec_47uF/50V_D6
designator C?, comment 47uF/50V
直插电解电容; Part Number: RP02.04.000167; LatestRevisionDate: 09-Feb-2017; LatestRevisionNote: SCHlib build; Publisher: ChenYinaho; Manufacturer: *; Manufacturer Part Number: *; Value: 47uF/50V
footprint CAP_SMT_6.3*7.7 (Footprint not found)
footprint CAP_6X5_DIP (Footprint not found)
footprint CAP_6.3X7
pins: 1, 2

## Cap_Elec_47uF/50V_D6_2
designator C?, comment 47uF/50V D6.3H7
直插电解电容; Part Number: RP02.04.000167; LatestRevisionDate: 09-Feb-2017; LatestRevisionNote: SCHlib build; Publisher: ChenYinaho; Manufacturer: *; Manufacturer Part Number: *; Value: 47uF/50V D6.3H7
footprint CAP_SMT_6.3*7.7 (Footprint not found)
footprint CAP_6X5_DIP (Footprint not found)
footprint CAP_6.3X7_DIP
pins: 1, 2

## Cap_Elec_100uF/50V
designator C?, comment 100uF/50V
直插电解电容; Part Number: RP02.04.000145; LatestRevisionDate: 09-Feb-2017; LatestRevisionNote: SCHlib build; Publisher: ChenYinaho; Manufacturer: *; Manufacturer Part Number: *; Value: 100uF/50V
footprint CAP_SMT_6.3*7.7 (Footprint not found)
footprint CAP_6X5_DIP (Footprint not found)
footprint CAP_8X12_DIP (Footprint not found)
pins: 1, 2

## Cap_Elec_220uF/10V
designator C?, comment 220uF/10V
直插电解电容; Part Number: RP02.04.000146; LatestRevisionDate: 09-Feb-2017; LatestRevisionNote: SCHlib build; Publisher: ChenYinaho; Manufacturer: *; Manufacturer Part Number: *; Value: 220uF/10V
footprint CAP_SMT_6.3*7.7 (Footprint not found)
footprint CAP_6X5_DIP
footprint CAP_8X12_DIP (Footprint not found)
pins: 1, 2

## Cap_Elec_220uF/10V_2
designator C?, comment 220uF/10V D6.3H5
直插电解电容; Part Number: RP02.04.000146; LatestRevisionDate: 09-Feb-2017; LatestRevisionNote: SCHlib build; Publisher: ChenYinaho; Manufacturer: *; Manufacturer Part Number: *; Value: 220uF/10V D6.3H5
footprint CAP_SMT_6.3*7.7 (Footprint not found)
footprint CAP_6X5_DIP2
footprint CAP_8X12_DIP (Footprint not found)
pins: 1, 2

## Cap_Elec_330uF/16V
designator C?, comment 330uF/16V
直插电解电容; Part Number: RP02.04.000149; LatestRevisionDate: 09-Feb-2017; LatestRevisionNote: SCHlib build; Publisher: ChenYinaho; Manufacturer: *; Manufacturer Part Number: *; Value: 330uF/16V
footprint CAP_SMT_6.3*7.7 (Footprint not found)
footprint CAP_6.3*12_DIP (Footprint not found)
footprint CAP_8X12_DIP (Footprint not found)
pins: 1, 2

## Cap_Elec_T_47uF/50V
designator C?, comment 47uF/50V
贴片电解电容; Part Number: RP02.04.000163; LatestRevisionDate: 09-Feb-2017; LatestRevisionNote: SCHlib build; Publisher: ChenYinaho; Manufacturer: *; Manufacturer Part Number: *; Value: 47uF/50V
footprint CD6_3
footprint CAP_6X5_DIP (Footprint not found)
footprint CAP_8X12_DIP (Footprint not found)
pins: 1, 2

## Cap_Elec_T_100uF/16V
designator C?, comment 100uF/16V
贴片电解电容 6.3*5.4; Part Number: RP02.04.000234; LatestRevisionDate: 09-Feb-2017; LatestRevisionNote: SCHlib build; Publisher: ChenYinaho; Manufacturer: *; Manufacturer Part Number: *; Value: 100uF/16V
footprint CD6_3
footprint CAP_6X5_DIP (Footprint not found)
footprint CAP_8X12_DIP (Footprint not found)
pins: 1, 2

## Cap_Elec_T_100uF/35V
designator C?, comment 100uF/35V
贴片电解电容 6.3*7.7; Part Number: RP02.04.000209; LatestRevisionDate: 09-Feb-2017; LatestRevisionNote: SCHlib build; Publisher: ChenYinaho; Manufacturer: *; Manufacturer Part Number: *; Value: 100uF/35V
footprint CD6_3
footprint CAP_6X5_DIP (Footprint not found)
footprint CAP_8X12_DIP (Footprint not found)
pins: 1, 2

## Cap_super_0.47F/5.5V
designator C?, comment 0.47F/5.5V
直插法拉电容; Part Number: NEW; LatestRevisionDate: 09-Feb-2017; LatestRevisionNote: SCHlib build; Publisher: ChenYinaho; Manufacturer: *; Manufacturer Part Number: *; Value: 0.47F/5.5V
footprint CAP_SMT_6.3*7.7 (Footprint not found)
footprint CAP_D12 (Footprint not found)
footprint CAP_8X12_DIP (Footprint not found)
pins: 1, 2

## Cap_Tan_47uF/10V
designator C?, comment 47uF/10V
贴片钽电容; Manufacturer: AVX; Manufacturer Part Number: TAJB476K010RNJ; Part Number: NEW; LatestRevisionDate: 09-Feb-2017; LatestRevisionNote: SCHlib build; Publisher: ChenYinaho; Value: 47uF/10V
footprint CAP-B_3528
pins: 1, 2

## Cap_Tan_100uF/10V
designator C?, comment 100uF/10V
贴片钽电容; Manufacturer: AVX; Manufacturer Part Number: TAJB107M010RNJ; Part Number: NEW; LatestRevisionDate: 09-Feb-2017; LatestRevisionNote: SCHlib build; Publisher: ChenYinaho; Value: 100uF/10V
footprint CAP-B_3528
pins: 1, 2

## Cap_Tan_100uF/16V
designator C?, comment 100uF/16V
贴片钽电容; Part Number: RP02.04.000164; LatestRevisionDate: 09-Feb-2017; LatestRevisionNote: SCHlib build; Publisher: ChenYinaho; Manufacturer: *; Manufacturer Part Number: *; Value: 100uF/16V
footprint CAP_DE7343 (Footprint not found)
pins: 1, 2

## CC2640R2FRGZ
designator U?, comment CC2640R2FRGZR
无线收发芯片; Manufacturer: TI; Part Number: NEW; LatestRevisionDate: 09-Feb-2017; LatestRevisionNote: SCHlib build; Publisher: ChenYinaho; Manufacturer Part Number: CC2640R2FRGZR; Value: CC2640R2FRGZR; PackageDescription: VQFN-48_7x7x05P
footprint VQFN-48_7x7x05P
part A pins: 1 RF_P, 2 RF_N, 3 X32K_Q1, 4 X32K_Q2, 13 VDDS2, 22 DDS3, 23 DCOUPL, 24 JTAG_TMSC, 25 JTAG_TCKC, 33 DCDC_SW, 34 VDDS_DCDC, 35 REST_N, 44 VDDS, 45 VDDR, 46 X24M_N, 47 X24M_P, 48 VDDR, 49 VSS
part B pins: 5 DIO0, 6 DIO1, 7 DIO2, 8 DIO3, 9 DIO4, 10 DIO5, 11 DIO6, 12 DIO7, 14 DIO_8, 15 DIO_9, 16 DIO_10, 17 DIO_11, 18 DIO_12, 19 DIO_13, 20 DIO_14, 21 DIO_15, 26 DIO_16, 27 DIO_17, 28 DIO_18, 29 DIO_19, 30 DIO_20, 31 DIO_21, 32 DIO_22, 36 DIO_23, 37 DIO_24, 38 DIO_25, 39 DIO_26, 40 DIO_27, 41 DIO_28, 42 DIO_29, 43 DIO_30

## CD10
designator L?, comment SMDRH104R -220N
Manufacturer: TDK; LatestRevisionDate: 09-Feb-2017; LatestRevisionNote: SCHlib build; Publisher: ChenYinaho; Manufacturer Part Number: SMDRH104R -220N; Value: SMDRH104R -220N
footprint LD1040 (Footprint not found)
footprint L0805 (Footprint not found)
pins: 1, 2

## CH450
designator U?, comment CH450H
数码管键盘控制芯片; Manufacturer: WCH(沁恒); LatestRevisionDate: 09-Feb-2017; LatestRevisionNote: SCHlib build; Publisher: ChenYinaho; PackageDescription: SOP20; Manufacturer Part Number: CH450H; Value: CH450H; Part Number: *
footprint SOP20/300
pins: 1 DIG3, 2 DIG4, 3 SCL, 4 SDA, 5 GND, 6 DIG5, 7 DIG6, 8 DIG7, 9 RSTH, 10 SEG0, 11 SEG1, 12 VCC, 13 SEG2, 14 SEG3, 15 SEG4, 16 SEG5, 17 SEG6, 18 SEG7, 19 INT#, 20 DIG2

## Circuit Breaker
designator CB?, comment 0R
表贴电阻,0603,±5%,1/10W; LatestRevisionDate: 09-Feb-2017; LatestRevisionNote: SCHlib build; Publisher: ChenYinaho; PackageDescription: R0603; Manufacturer: *; Manufacturer Part Number: *; Value: 0R; Part Number: *
footprint JP2_SMD
footprint 0805_jmp (Footprint not found)
pins: 1, 2

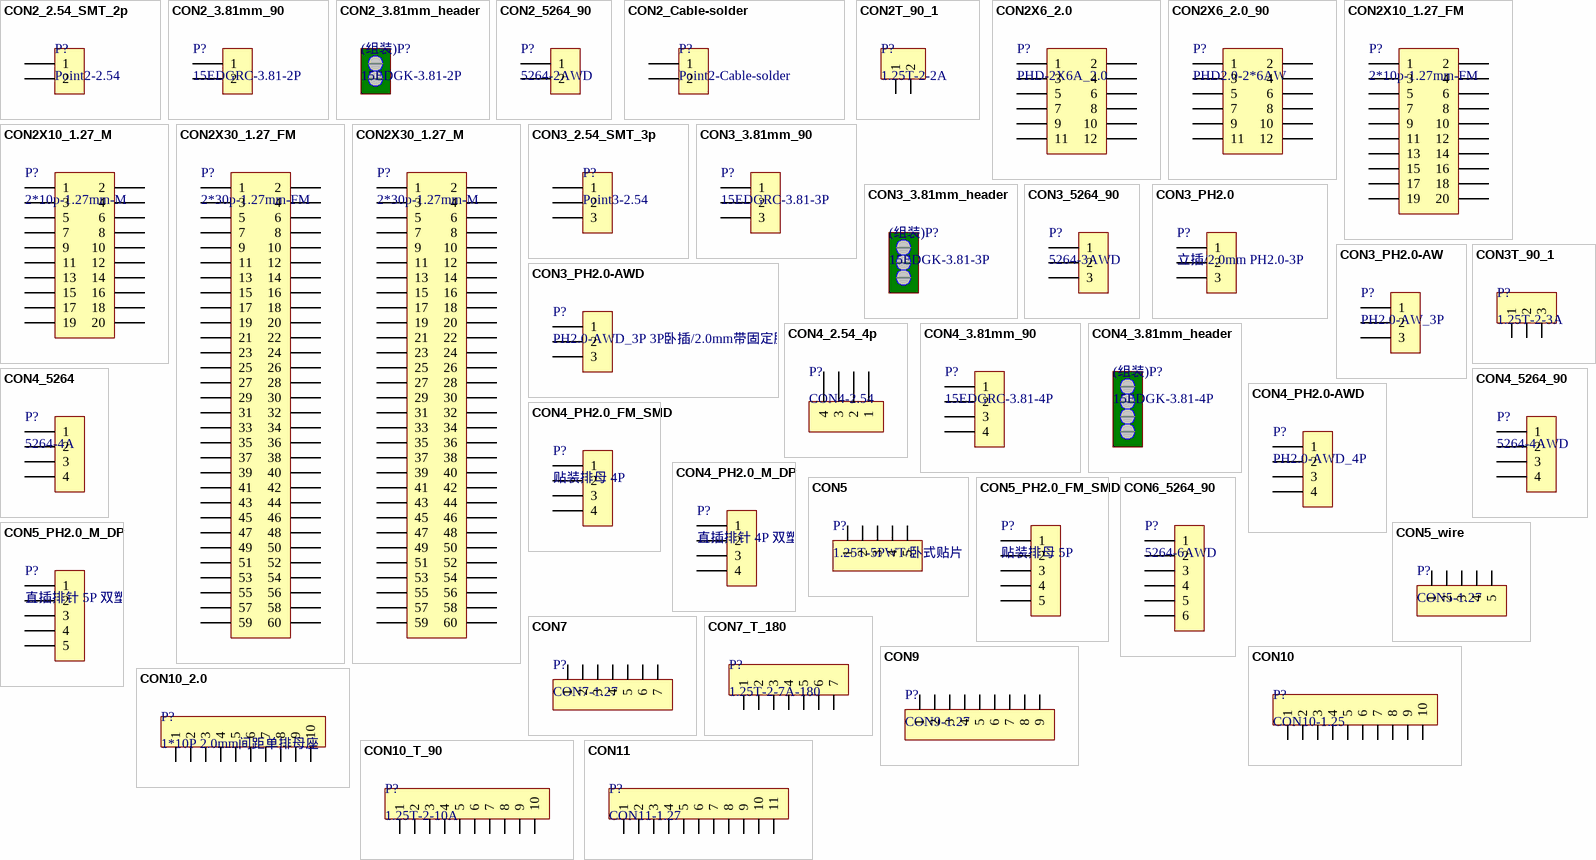
[diagram p3: symbols CON2_2.54_SMT_2p to CON11]

## CON2_2.54_SMT_2p
designator P?, comment Point2-2.54
线缆焊接点; LatestRevisionDate: 09-Feb-2017; LatestRevisionNote: SCHlib build; Publisher: ChenYinaho; Manufacturer: *; Manufacturer Part Number: *; Part Number: *; Value: Point2-2.54
footprint PT_SMT_2.54_2P (Footprint not found)
pins: 1, 2

## CON2_3.81mm_90
designator P?, comment 15EDGRC-3.81-2P
弯针插座,插拔方向平行于线路板,间距3.81mm,2位; Part Number: NEW; LatestRevisionDate: 09-Feb-2017; LatestRevisionNote: SCHlib build; Publisher: ChenYinaho; Manufacturer: *; Manufacturer Part Number: *; Value: 15EDGRC-3.81-2P
footprint CON381MM2
pins: 1, 2

## CON2_3.81mm_header
designator (组装)P?, comment 15EDGK-3.81-2P
配套插头，出线方向平行于插拔方向，间距3.81mm，2位; Part Number: NEW; LatestRevisionDate: 09-Feb-2017; LatestRevisionNote: SCHlib build; Publisher: ChenYinaho; Manufacturer: *; Manufacturer Part Number: *; Value: 15EDGK-3.81-2P

## CON2_5264_90
designator P?, comment 5264-2AWD
5264弯针插座,间距2.5mm,2位; Part Number: NEW; LatestRevisionDate: 09-Feb-2017; LatestRevisionNote: SCHlib build; Publisher: ChenYinaho; Manufacturer: *; Manufacturer Part Number: *; Value: 5264-2AWD
footprint PH5264-2P_90 (Footprint not found)
pins: 1, 2

## CON2_Cable-solder
designator P?, comment Point2-Cable-solder
同轴线缆焊接点; LatestRevisionDate: 09-Feb-2017; LatestRevisionNote: SCHlib build; Publisher: ChenYinaho; Manufacturer: *; Manufacturer Part Number: *; Part Number: *; Value: Point2-Cable-solder
footprint Cable-solder
pins: 1, 2

## CON2T_90_1
designator P?, comment 1.25T-2-2A
卧贴座 1.25/2p; Part Number: RP02.07.000177; LatestRevisionDate: 09-Feb-2017; LatestRevisionNote: SCHlib build; Publisher: ChenYinaho; Manufacturer: *; Manufacturer Part Number: *; Value: 1.25T-2-2A
footprint PH_2PIN_1.25_T_90
pins: 1, 2

## CON2X6_2.0
designator P?, comment PHD-2X6A_2.0
直插插座 2.0mm间距; Part Number: RP02.07.000133; LatestRevisionDate: 09-Feb-2017; LatestRevisionNote: SCHlib build; Publisher: ChenYinaho; Manufacturer: *; Manufacturer Part Number: *; Value: PHD-2X6A_2.0
footprint PHD2X6A_2.0
pins: 1, 2, 3, 4, 5, 6, 7, 8, 9, 10, 11, 12

## CON2X6_2.0_90
designator P?, comment PHD2.0-2*6AW
直插90度弯座 2.0/2*6pin; Part Number: RP02.07.000132/RP02.07.000140; LatestRevisionDate: 09-Feb-2017; LatestRevisionNote: SCHlib build; Publisher: ChenYinaho; Manufacturer: *; Manufacturer Part Number: *; Value: PHD2.0-2*6AW
footprint PHD2X6_2.0_90
pins: 1, 2, 3, 4, 5, 6, 7, 8, 9, 10, 11, 12

## CON2X10_1.27_FM
designator P?, comment 2*10p-1.27mm-FM
表贴双排排母1.27mm，2*10pin，高度2.3mm; Part Number: RP02.07.000176; LatestRevisionDate: 09-Feb-2017; LatestRevisionNote: SCHlib build; Publisher: ChenYinaho; Manufacturer: *; Manufacturer Part Number: *; Value: 2*10p-1.27mm-FM
footprint H1.27_2X10-FM
pins: 1, 2, 3, 4, 5, 6, 7, 8, 9, 10, 11, 12, 13, 14, 15, 16, 17, 18, 19, 20

## CON2X10_1.27_M
designator P?, comment 2*10p-1.27mm-M
表贴双排针1.27mm，2*10pin，高度3.4mm; Part Number: RP02.07.000174; LatestRevisionDate: 09-Feb-2017; LatestRevisionNote: SCHlib build; Publisher: ChenYinaho; Manufacturer: *; Manufacturer Part Number: *; Value: 2*10p-1.27mm-M
footprint H1.27_2X10-M
pins: 1, 2, 3, 4, 5, 6, 7, 8, 9, 10, 11, 12, 13, 14, 15, 16, 17, 18, 19, 20

## CON2X30_1.27_FM
designator P?, comment 2*30p-1.27mm-FM
表贴双排排母1.27mm，2*30pin，塑高4.4mm; Part Number: NEW; LatestRevisionDate: 09-Feb-2017; LatestRevisionNote: SCHlib build; Publisher: ChenYinaho; Manufacturer: *; Manufacturer Part Number: *; Value: 2*30p-1.27mm-FM
footprint H1.27_2X30-FM
pins: 1, 2, 3, 4, 5, 6, 7, 8, 9, 10, 11, 12, 13, 14, 15, 16, 17, 18, 19, 20, 21, 22, 23, 24, 25, 26, 27, 28, 29, 30, 31, 32, 33, 34, 35, 36, 37, 38, 39, 40, 41, 42, 43, 44, 45, 46, 47, 48, 49, 50, 51, 52, 53, 54, 55, 56, 57, 58, 59, 60

## CON2X30_1.27_M
designator P?, comment 2*30p-1.27mm-M
表贴双排针1.27mm，2*30pin，高度5.2mm; Part Number: NEW; LatestRevisionDate: 09-Feb-2017; LatestRevisionNote: SCHlib build; Publisher: ChenYinaho; Manufacturer: *; Manufacturer Part Number: *; Value: 2*30p-1.27mm-M
footprint H1.27_2X30-M
pins: 1, 2, 3, 4, 5, 6, 7, 8, 9, 10, 11, 12, 13, 14, 15, 16, 17, 18, 19, 20, 21, 22, 23, 24, 25, 26, 27, 28, 29, 30, 31, 32, 33, 34, 35, 36, 37, 38, 39, 40, 41, 42, 43, 44, 45, 46, 47, 48, 49, 50, 51, 52, 53, 54, 55, 56, 57, 58, 59, 60

## CON3_2.54_SMT_3p
designator P?, comment Point3-2.54
线缆焊接点; LatestRevisionDate: 09-Feb-2017; LatestRevisionNote: SCHlib build; Publisher: ChenYinaho; Manufacturer: *; Manufacturer Part Number: *; Part Number: *; Value: Point3-2.54
footprint PT_SMT_2.54_3P (Footprint not found)
pins: 1, 2, 3

## CON3_3.81mm_90
designator P?, comment 15EDGRC-3.81-3P
弯针插座,插拔方向平行于线路板,间距3.81mm,3位; Part Number: NEW; LatestRevisionDate: 09-Feb-2017; LatestRevisionNote: SCHlib build; Publisher: ChenYinaho; Manufacturer: *; Manufacturer Part Number: *; Value: 15EDGRC-3.81-3P
footprint CON381MM3
pins: 1, 2, 3

## CON3_3.81mm_header
designator (组装)P?, comment 15EDGK-3.81-3P
配套插头，出线方向平行于插拔方向，间距3.81mm，3位; Part Number: NEW; LatestRevisionDate: 09-Feb-2017; LatestRevisionNote: SCHlib build; Publisher: ChenYinaho; Manufacturer: *; Manufacturer Part Number: *; Value: 15EDGK-3.81-3P

## CON3_5264_90
designator P?, comment 5264-3AWD
5264弯针插座,间距2.5mm,3位; Part Number: NEW; LatestRevisionDate: 09-Feb-2017; LatestRevisionNote: SCHlib build; Publisher: ChenYinaho; Manufacturer: *; Manufacturer Part Number: *; Value: 5264-3AWD
footprint PH5264-3P_90
pins: 1, 2, 3

## CON3_PH2.0
designator P?, comment 立插/2.0mm PH2.0-3P
直插直座; Part Number: RP02.07.000081; LatestRevisionDate: 09-Feb-2017; LatestRevisionNote: SCHlib build; Publisher: ChenYinaho; Manufacturer: *; Manufacturer Part Number: *; Value: 立插/2.0mm PH2.0-3P
footprint PH-3P (Footprint not found)
pins: 1, 2, 3

## CON3_PH2.0-AW
designator P?, comment PH2.0-AW_3P
直插弯座; Part Number: NEW; LatestRevisionDate: 09-Feb-2017; LatestRevisionNote: SCHlib build; Publisher: ChenYinaho; Manufacturer: *; Manufacturer Part Number: *; Value: PH2.0-AW_3P
footprint PH-AW_3P
pins: 1, 2, 3

## CON3_PH2.0-AWD
designator P?, comment PH2.0-AWD_3P 3P卧插/2.0mm带固定脚
直插弯座; Part Number: RP02.07.000096; LatestRevisionDate: 09-Feb-2017; LatestRevisionNote: SCHlib build; Publisher: ChenYinaho; Manufacturer: *; Manufacturer Part Number: *; Value: PH2.0-AWD_3P 3P卧插/2.0mm带固定脚
footprint PH-AWD_3P (Footprint not found)
pins: 1, 2, 3

## CON3T_90_1
designator P?, comment 1.25T-2-3A
卧贴座 1.25/3p; Part Number: RP02.07.000179; LatestRevisionDate: 09-Feb-2017; LatestRevisionNote: SCHlib build; Publisher: ChenYinaho; Manufacturer: *; Manufacturer Part Number: *; Value: 1.25T-2-3A
footprint PH_3PIN_1.25_T_90 (Footprint not found)
pins: 1, 2, 3

## CON4_2.54_4p
designator P?, comment CON4-2.54
直插插座; LatestRevisionDate: 09-Feb-2017; LatestRevisionNote: SCHlib build; Publisher: ChenYinaho; Manufacturer: *; Manufacturer Part Number: *; Part Number: *; Value: CON4-2.54
footprint PH_4PIN_2.54_H
pins: 1, 2, 3, 4

## CON4_3.81mm_90
designator P?, comment 15EDGRC-3.81-4P
弯针插座,插拔方向平行于线路板,间距3.81mm,4位; Part Number: NEW; LatestRevisionDate: 09-Feb-2017; LatestRevisionNote: SCHlib build; Publisher: ChenYinaho; Manufacturer: *; Manufacturer Part Number: *; Value: 15EDGRC-3.81-4P
footprint CON381MM4
pins: 1, 2, 3, 4

## CON4_3.81mm_header
designator (组装)P?, comment 15EDGK-3.81-4P
配套插头，出线方向平行于插拔方向，间距3.81mm，4位; Part Number: NEW; LatestRevisionDate: 09-Feb-2017; LatestRevisionNote: SCHlib build; Publisher: ChenYinaho; Manufacturer: *; Manufacturer Part Number: *; Value: 15EDGK-3.81-4P

## CON4_5264
designator P?, comment 5264-4A
5264直针插座,间距2.5mm,4位; Part Number: NEW; LatestRevisionDate: 09-Feb-2017; LatestRevisionNote: SCHlib build; Publisher: ChenYinaho; Manufacturer: *; Manufacturer Part Number: *; Value: 5264-4A
footprint PH5264-4P (Footprint not found)
pins: 1, 2, 3, 4

## CON4_5264_90
designator P?, comment 5264-4AWD
5264弯针插座,间距2.5mm,4位; Part Number: RP02.07.000175; LatestRevisionDate: 09-Feb-2017; LatestRevisionNote: SCHlib build; Publisher: ChenYinaho; Manufacturer: *; Manufacturer Part Number: *; Value: 5264-4AWD
footprint PH5264-4P_90 (Footprint not found)
pins: 1, 2, 3, 4

## CON4_PH2.0-AWD
designator P?, comment PH2.0-AWD_4P
直插弯座; Part Number: NEW; LatestRevisionDate: 09-Feb-2017; LatestRevisionNote: SCHlib build; Publisher: ChenYinaho; Manufacturer: *; Manufacturer Part Number: *; Value: PH2.0-AWD_4P
footprint PH-AWD_4P (Footprint not found)
pins: 1, 2, 3, 4

## CON4_PH2.0_FM_SMD
designator P?, comment 贴装排母 4P
1*4p立贴排母 2.0mm间距 错位脚 高4.8mm; Part Number: RP02.07.000148; LatestRevisionDate: 09-Feb-2017; LatestRevisionNote: SCHlib build; Publisher: ChenYinaho; Manufacturer: *; Manufacturer Part Number: *; Value: 贴装排母 4P
footprint CON4_PH2.0_FM_SMD (Footprint not found)
pins: 1, 2, 3, 4

## CON4_PH2.0_M_DP
designator P?, comment 直插排针 4P 双塑
1*4p单排立插排针 2.0mm间距 双塑高7.2mm; Part Number: RP02.07.000146; LatestRevisionDate: 09-Feb-2017; LatestRevisionNote: SCHlib build; Publisher: ChenYinaho; Manufacturer: *; Manufacturer Part Number: *; Value: 直插排针 4P 双塑
footprint CON4_PH2.0_M_DP (Footprint not found)
pins: 1, 2, 3, 4

## CON5
designator P?, comment 1.25T-5PWT/卧式贴片
贴片插座; Part Number: RP02.07.000095; LatestRevisionDate: 09-Feb-2017; LatestRevisionNote: SCHlib build; Publisher: ChenYinaho; Manufacturer: *; Manufacturer Part Number: *; Value: 1.25T-5PWT/卧式贴片
footprint CON5-1.27-SMD
footprint PH_5PIN_1.5_90
pins: 1, 2, 3, 4, 5

## CON5_PH2.0_FM_SMD
designator P?, comment 贴装排母 5P
1*5p立贴排母 2.0mm间距 错位脚 高4.8mm; Part Number: RP02.07.000149; LatestRevisionDate: 09-Feb-2017; LatestRevisionNote: SCHlib build; Publisher: ChenYinaho; Manufacturer: *; Manufacturer Part Number: *; Value: 贴装排母 5P
footprint CON5_PH2.0_FM_SMD (Footprint not found)
pins: 1, 2, 3, 4, 5

## CON5_PH2.0_M_DP
designator P?, comment 直插排针 5P 双塑
1*5p单排立插排针 2.0mm间距 双塑高7.2mm; Part Number: RP02.07.000147; LatestRevisionDate: 09-Feb-2017; LatestRevisionNote: SCHlib build; Publisher: ChenYinaho; Manufacturer: *; Manufacturer Part Number: *; Value: 直插排针 5P 双塑
footprint CON5_PH2.0_M_DP (Footprint not found)
pins: 1, 2, 3, 4, 5